# Altium schematic symbol library axsem_rpi_v1-0.SCHLIB: 6 symbols
Pins are listed as number, name and electrical type; pins without a type are passive.

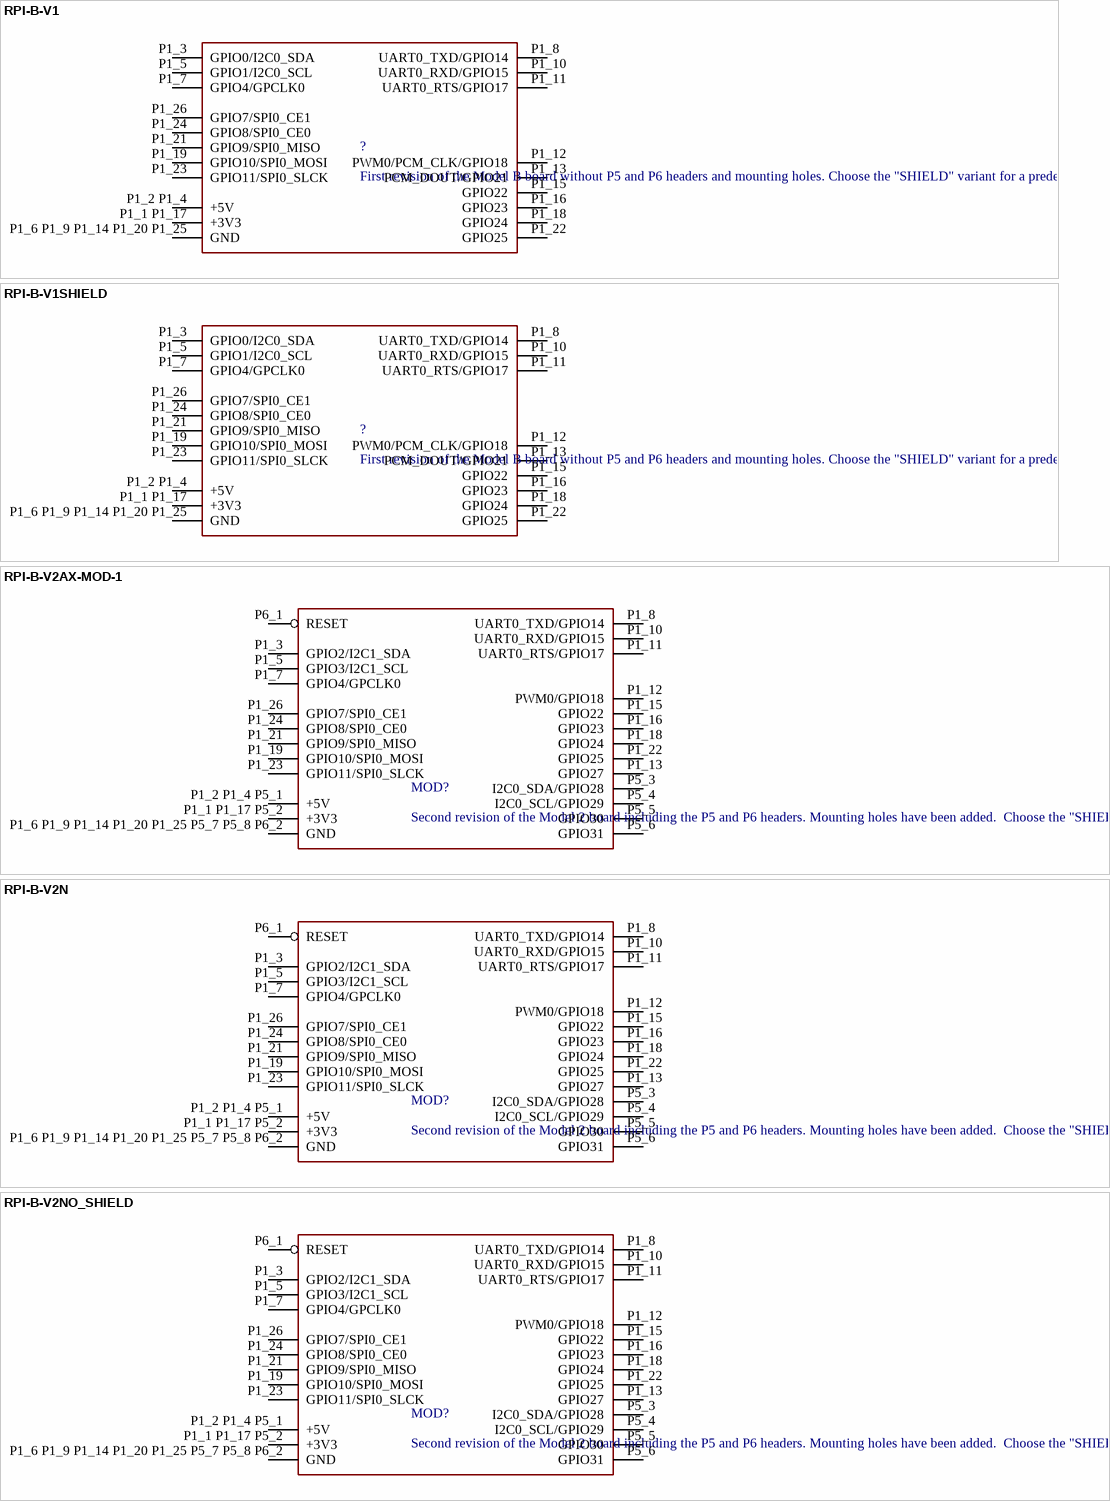
[diagram p0: symbols RPI-B-V1 to RPI-B-V2NO_SHIELD]

## RPI-B-V1
designator ?, comment First revision of the Model B board without P5 and P6 headers and mounting holes. Choose the "SHIELD" variant for a predefined Dimension layer.
footprint RPI-B-V1
pins: P1_1 P1_17 +3V3 (power), P1_2 P1_4 +5V (power), P1_3 GPIO0/I2C0_SDA, P1_5 GPIO1/I2C0_SCL, P1_6 P1_9 P1_14 P1_20 P1_25 GND (power), P1_7 GPIO4/GPCLK0, P1_8 UART0_TXD/GPIO14, P1_10 UART0_RXD/GPIO15, P1_11 UART0_RTS/GPIO17, P1_12 PWM0/PCM_CLK/GPIO18, P1_13 PCM_DOUT/GPIO21, P1_15 GPIO22, P1_16 GPIO23, P1_18 GPIO24, P1_19 GPIO10/SPI0_MOSI, P1_21 GPIO9/SPI0_MISO, P1_22 GPIO25, P1_23 GPIO11/SPI0_SLCK, P1_24 GPIO8/SPI0_CE0, P1_26 GPIO7/SPI0_CE1

## RPI-B-V1SHIELD
designator ?, comment First revision of the Model B board without P5 and P6 headers and mounting holes. Choose the "SHIELD" variant for a predefined Dimension layer.
footprint RPI-B-V1-SHIELD
pins: P1_1 P1_17 +3V3 (power), P1_2 P1_4 +5V (power), P1_3 GPIO0/I2C0_SDA, P1_5 GPIO1/I2C0_SCL, P1_6 P1_9 P1_14 P1_20 P1_25 GND (power), P1_7 GPIO4/GPCLK0, P1_8 UART0_TXD/GPIO14, P1_10 UART0_RXD/GPIO15, P1_11 UART0_RTS/GPIO17, P1_12 PWM0/PCM_CLK/GPIO18, P1_13 PCM_DOUT/GPIO21, P1_15 GPIO22, P1_16 GPIO23, P1_18 GPIO24, P1_19 GPIO10/SPI0_MOSI, P1_21 GPIO9/SPI0_MISO, P1_22 GPIO25, P1_23 GPIO11/SPI0_SLCK, P1_24 GPIO8/SPI0_CE0, P1_26 GPIO7/SPI0_CE1

## RPI-B-V2AX-MOD-1
designator MOD?, comment Second revision of the Model 2 board including the P5 and P6 headers. Mounting holes have been added.  Choose the "SHIELD" variant for a predefined Dimension layer and drilling holes.  Theres also a "SHIELD" variant for the Model A without a RJ45 connector.
footprint AX-RPI-BASE-V2
pins: P1_1 P1_17 P5_2 +3V3 (power), P1_2 P1_4 P5_1 +5V (power), P1_3 GPIO2/I2C1_SDA, P1_5 GPIO3/I2C1_SCL, P1_6 P1_9 P1_14 P1_20 P1_25 P5_7 P5_8 P6_2 GND (power), P1_7 GPIO4/GPCLK0, P1_8 UART0_TXD/GPIO14, P1_10 UART0_RXD/GPIO15, P1_11 UART0_RTS/GPIO17, P1_12 PWM0/GPIO18, P1_13 GPIO27, P1_15 GPIO22, P1_16 GPIO23, P1_18 GPIO24, P1_19 GPIO10/SPI0_MOSI, P1_21 GPIO9/SPI0_MISO, P1_22 GPIO25, P1_23 GPIO11/SPI0_SLCK, P1_24 GPIO8/SPI0_CE0, P1_26 GPIO7/SPI0_CE1, P5_3 I2C0_SDA/GPIO28 (power), P5_4 I2C0_SCL/GPIO29 (power), P5_5 GPIO30 (power), P5_6 GPIO31 (power), P6_1 RESET (power)

## RPI-B-V2N
designator MOD?, comment Second revision of the Model 2 board including the P5 and P6 headers. Mounting holes have been added.  Choose the "SHIELD" variant for a predefined Dimension layer and drilling holes.  Theres also a "SHIELD" variant for the Model A without a RJ45 connector.
footprint RPI-A-SHIELD
pins: P1_1 P1_17 P5_2 +3V3 (power), P1_2 P1_4 P5_1 +5V (power), P1_3 GPIO2/I2C1_SDA, P1_5 GPIO3/I2C1_SCL, P1_6 P1_9 P1_14 P1_20 P1_25 P5_7 P5_8 P6_2 GND (power), P1_7 GPIO4/GPCLK0, P1_8 UART0_TXD/GPIO14, P1_10 UART0_RXD/GPIO15, P1_11 UART0_RTS/GPIO17, P1_12 PWM0/GPIO18, P1_13 GPIO27, P1_15 GPIO22, P1_16 GPIO23, P1_18 GPIO24, P1_19 GPIO10/SPI0_MOSI, P1_21 GPIO9/SPI0_MISO, P1_22 GPIO25, P1_23 GPIO11/SPI0_SLCK, P1_24 GPIO8/SPI0_CE0, P1_26 GPIO7/SPI0_CE1, P5_3 I2C0_SDA/GPIO28 (power), P5_4 I2C0_SCL/GPIO29 (power), P5_5 GPIO30 (power), P5_6 GPIO31 (power), P6_1 RESET (power)

## RPI-B-V2NO_SHIELD
designator MOD?, comment Second revision of the Model 2 board including the P5 and P6 headers. Mounting holes have been added.  Choose the "SHIELD" variant for a predefined Dimension layer and drilling holes.  Theres also a "SHIELD" variant for the Model A without a RJ45 connector.
footprint RPI-B-V2
pins: P1_1 P1_17 P5_2 +3V3 (power), P1_2 P1_4 P5_1 +5V (power), P1_3 GPIO2/I2C1_SDA, P1_5 GPIO3/I2C1_SCL, P1_6 P1_9 P1_14 P1_20 P1_25 P5_7 P5_8 P6_2 GND (power), P1_7 GPIO4/GPCLK0, P1_8 UART0_TXD/GPIO14, P1_10 UART0_RXD/GPIO15, P1_11 UART0_RTS/GPIO17, P1_12 PWM0/GPIO18, P1_13 GPIO27, P1_15 GPIO22, P1_16 GPIO23, P1_18 GPIO24, P1_19 GPIO10/SPI0_MOSI, P1_21 GPIO9/SPI0_MISO, P1_22 GPIO25, P1_23 GPIO11/SPI0_SLCK, P1_24 GPIO8/SPI0_CE0, P1_26 GPIO7/SPI0_CE1, P5_3 I2C0_SDA/GPIO28 (power), P5_4 I2C0_SCL/GPIO29 (power), P5_5 GPIO30 (power), P5_6 GPIO31 (power), P6_1 RESET (power)

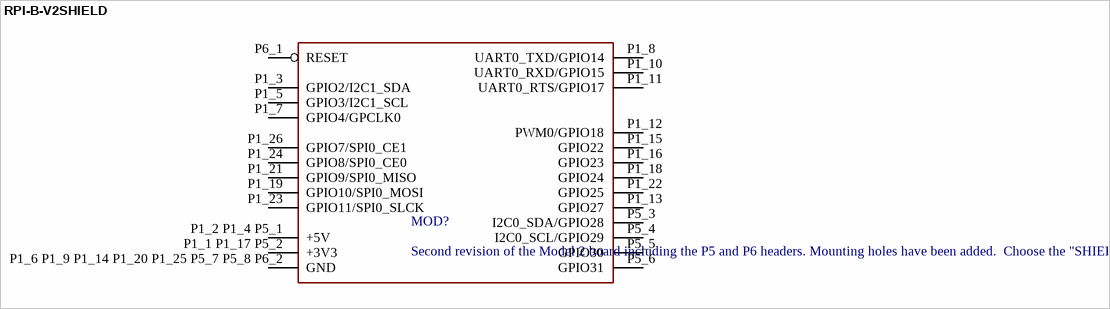
[diagram p1: symbol RPI-B-V2SHIELD]

## RPI-B-V2SHIELD
designator MOD?, comment Second revision of the Model 2 board including the P5 and P6 headers. Mounting holes have been added.  Choose the "SHIELD" variant for a predefined Dimension layer and drilling holes.  Theres also a "SHIELD" variant for the Model A without a RJ45 connector.
footprint RPI-B-V2-SHIELD
pins: P1_1 P1_17 P5_2 +3V3 (power), P1_2 P1_4 P5_1 +5V (power), P1_3 GPIO2/I2C1_SDA, P1_5 GPIO3/I2C1_SCL, P1_6 P1_9 P1_14 P1_20 P1_25 P5_7 P5_8 P6_2 GND (power), P1_7 GPIO4/GPCLK0, P1_8 UART0_TXD/GPIO14, P1_10 UART0_RXD/GPIO15, P1_11 UART0_RTS/GPIO17, P1_12 PWM0/GPIO18, P1_13 GPIO27, P1_15 GPIO22, P1_16 GPIO23, P1_18 GPIO24, P1_19 GPIO10/SPI0_MOSI, P1_21 GPIO9/SPI0_MISO, P1_22 GPIO25, P1_23 GPIO11/SPI0_SLCK, P1_24 GPIO8/SPI0_CE0, P1_26 GPIO7/SPI0_CE1, P5_3 I2C0_SDA/GPIO28 (power), P5_4 I2C0_SCL/GPIO29 (power), P5_5 GPIO30 (power), P5_6 GPIO31 (power), P6_1 RESET (power)